# Altium footprint library CAP315RP.PcbLib: 1 footprints
Each footprint in its own frame and in the unit in brackets; x right, y up, seen from the top. Pads: shape width x height; smd on the part's side, far side on the other; paste and mask are expansions set on the pad; w line width, h text height; cw(c..) or ccw(c..) is an arc to the next point about the centre after c.
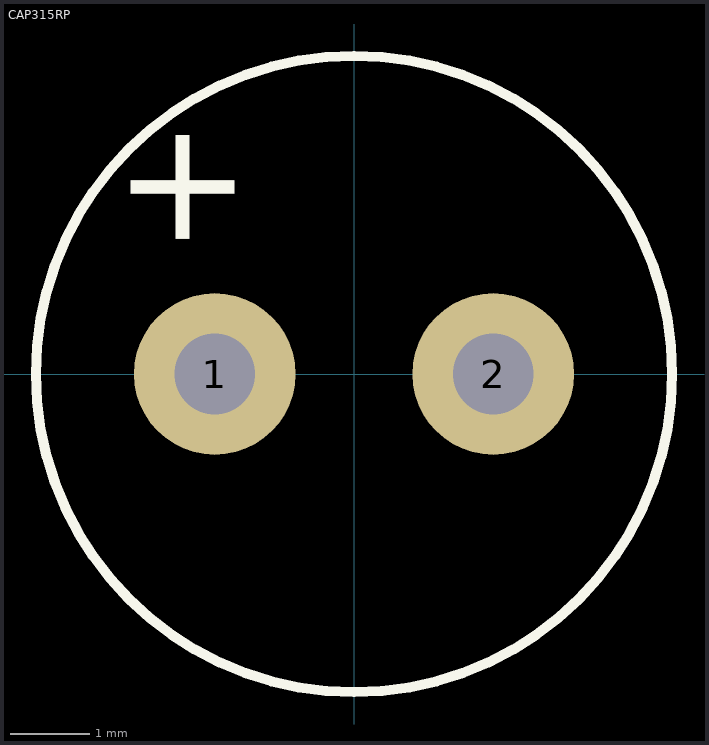
[diagram p0: the footprint, top view; thin cyan lines are the x and y axes]

## CAP315RP [mil]
pads (2):
  round 80 hole 40: 1(-68.9,0) 2(68.9,0)
Top Overlay:
  circle w5: c0,0 r157.48
  text "+" at -59,58 h60
3D body "CAP_RN_8X11P5_NCH.step": height 512.6, standoff -172.01, extent -159.14,-155 156.14,159.74